# Altium footprint library IPC-SM-782 Section 11.3 SQFP_QFP-Rectangular.PcbLib: 50 footprints (part 1 of 4)
Each footprint in its own frame and in the unit in brackets; x right, y up, seen from the top. Pads: shape width x height; smd on the part's side, far side on the other; paste and mask are expansions set on the pad; w line width, h text height; cw(c..) or ccw(c..) is an arc to the next point about the centre after c.
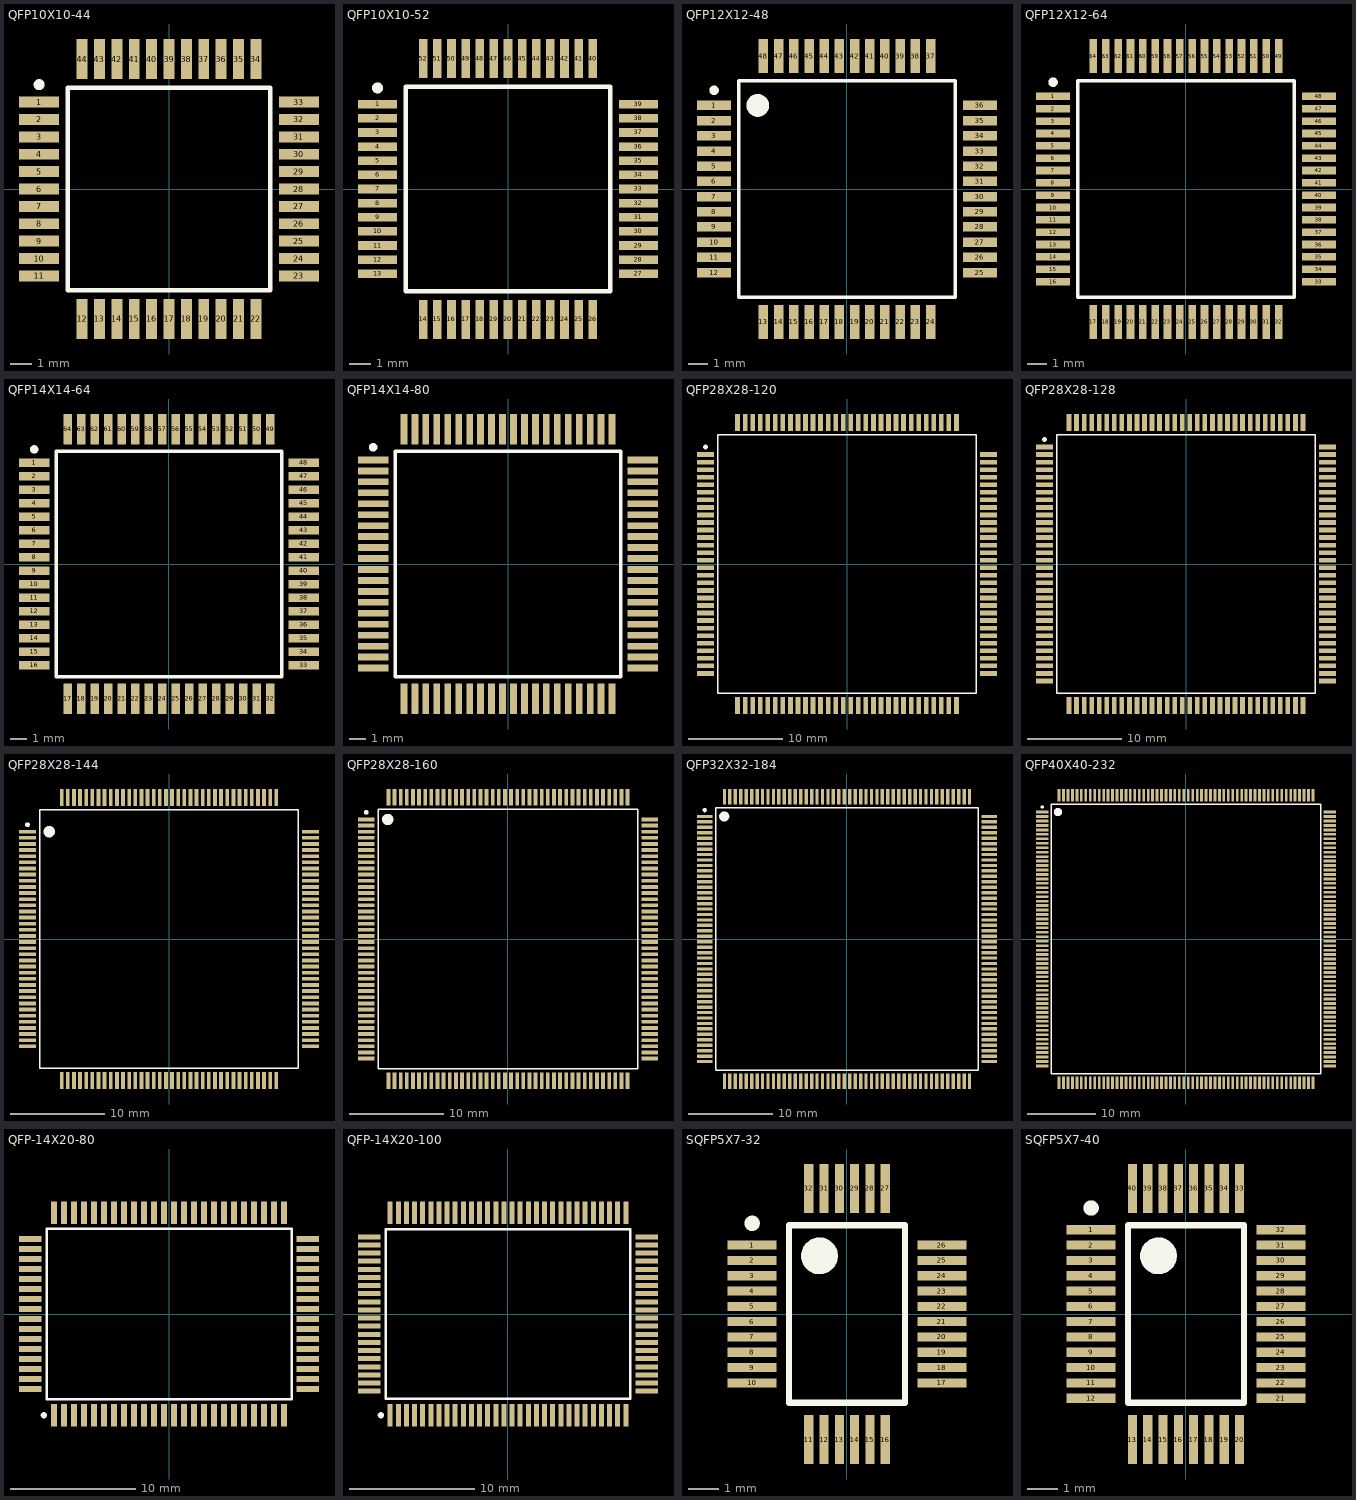
[diagram p0: the footprints below, top view; thin cyan lines are the x and y axes]

## QFP10X10-44 [mm] "QFP; 44 Leads; Body 10 x 10 mm; Pitch 0.8 mm"
height 2.45
pads (44):
  rect 1.85x0.5 smd: 1(-5.975,4) 2(-5.975,3.2) 3(-5.975,2.4) 4(-5.975,1.6) 5(-5.975,0.8) 6(-5.975,0) 7(-5.975,-0.8) 8(-5.975,-1.6) 9(-5.975,-2.4) 10(-5.975,-3.2) 11(-5.975,-4) 23(5.975,-4) 24(5.975,-3.2) 25(5.975,-2.4) 26(5.975,-1.6) 27(5.975,-0.8) 28(5.975,0) 29(5.975,0.8) 30(5.975,1.6) 31(5.975,2.4) 32(5.975,3.2) 33(5.975,4)
  rect 0.5x1.85 smd: 12(-4,-5.975) 13(-3.2,-5.975) 14(-2.4,-5.975) 15(-1.6,-5.975) 16(-0.8,-5.975) 17(0,-5.975) 18(0.8,-5.975) 19(1.6,-5.975) 20(2.4,-5.975) 21(3.2,-5.975) 22(4,-5.975) 34(4,5.975) 35(3.2,5.975) 36(2.4,5.975) 37(1.6,5.975) 38(0.8,5.975) 39(0,5.975) 40(-0.8,5.975) 41(-1.6,5.975) 42(-2.4,5.975) 43(-3.2,5.975) 44(-4,5.975)
Top Overlay:
  circle w0.25: c-5.975,4.8 r0.125
  lines w0.2: -4.65,-4.65 -4.65,4.65 4.65,4.65 4.65,-4.65 -4.65,-4.65

## QFP10X10-52 [mm] "QFP; 52 Leads; Body 10 x 10 mm; Pitch 0.65 mm"
height 2.45
pads (52):
  rect 1.8x0.4 smd: 1(-6,3.9) 2(-6,3.25) 3(-6,2.6) 4(-6,1.95) 5(-6,1.3) 6(-6,0.65) 7(-6,0) 8(-6,-0.65) 9(-6,-1.3) 10(-6,-1.95) 11(-6,-2.6) 12(-6,-3.25) 13(-6,-3.9) 27(6,-3.9) 28(6,-3.25) 29(6,-2.6) 30(6,-1.95) 31(6,-1.3) 32(6,-0.65) 33(6,0) 34(6,0.65) 35(6,1.3) 36(6,1.95) 37(6,2.6) 38(6,3.25) 39(6,3.9)
  rect 0.4x1.8 smd: 14(-3.9,-6) 15(-3.25,-6) 16(-2.6,-6) 17(-1.95,-6) 18(-1.3,-6) 19(-0.65,-6) 20(0,-6) 21(0.65,-6) 22(1.3,-6) 23(1.95,-6) 24(2.6,-6) 25(3.25,-6) 26(3.9,-6) 40(3.9,6) 41(3.25,6) 42(2.6,6) 43(1.95,6) 44(1.3,6) 45(0.65,6) 46(0,6) 47(-0.65,6) 48(-1.3,6) 49(-1.95,6) 50(-2.6,6) 51(-3.25,6) 52(-3.9,6)
Top Overlay:
  circle w0.25: c-6,4.65 r0.125
  lines w0.2: -4.7,-4.7 -4.7,4.7 4.7,4.7 4.7,-4.7 -4.7,-4.7

## QFP12X12-48 [mm] "QFP; 48 Leads; Body 12 x 12 mm; Pitch 0.8 mm"
height 2.45
pads (48):
  rect 1.8x0.5 smd: 1(-7,4.4) 2(-7,3.6) 3(-7,2.8) 4(-7,2) 5(-7,1.2) 6(-7,0.4) 7(-7,-0.4) 8(-7,-1.2) 9(-7,-2) 10(-7,-2.8) 11(-7,-3.6) 12(-7,-4.4) 25(7,-4.4) 26(7,-3.6) 27(7,-2.8) 28(7,-2) 29(7,-1.2) 30(7,-0.4) 31(7,0.4) 32(7,1.2) 33(7,2) 34(7,2.8) 35(7,3.6) 36(7,4.4)
  rect 0.5x1.8 smd: 13(-4.4,-7) 14(-3.6,-7) 15(-2.8,-7) 16(-2,-7) 17(-1.2,-7) 18(-0.4,-7) 19(0.4,-7) 20(1.2,-7) 21(2,-7) 22(2.8,-7) 23(3.6,-7) 24(4.4,-7) 37(4.4,7) 38(3.6,7) 39(2.8,7) 40(2,7) 41(1.2,7) 42(0.4,7) 43(-0.4,7) 44(-1.2,7) 45(-2,7) 46(-2.8,7) 47(-3.6,7) 48(-4.4,7)
Top Overlay:
  circle w0.6: c-4.7,4.4 r0.3
  circle w0.25: c-7,5.2 r0.125
  lines w0.2: -5.7,-5.7 -5.7,5.7 5.7,5.7 5.7,-5.7 -5.7,-5.7

## QFP12X12-64 [mm] "QFP; 64 Leads; Body 12 x 12 mm; Pitch 0.65 mm"
height 2.45
pads (64):
  rect 1.8x0.4 smd: 1(-7,4.875) 2(-7,4.225) 3(-7,3.575) 4(-7,2.925) 5(-7,2.275) 6(-7,1.625) 7(-7,0.975) 8(-7,0.325) 9(-7,-0.325) 10(-7,-0.975) 11(-7,-1.625) 12(-7,-2.275) 13(-7,-2.925) 14(-7,-3.575) 15(-7,-4.225) 16(-7,-4.875) 33(7,-4.875) 34(7,-4.225) 35(7,-3.575) 36(7,-2.925) 37(7,-2.275) 38(7,-1.625) 39(7,-0.975) 40(7,-0.325) 41(7,0.325) 42(7,0.975) 43(7,1.625) 44(7,2.275) 45(7,2.925) 46(7,3.575) 47(7,4.225) 48(7,4.875)
  rect 0.4x1.8 smd: 17(-4.875,-7) 18(-4.225,-7) 19(-3.575,-7) 20(-2.925,-7) 21(-2.275,-7) 22(-1.625,-7) 23(-0.975,-7) 24(-0.325,-7) 25(0.325,-7) 26(0.975,-7) 27(1.625,-7) 28(2.275,-7) 29(2.925,-7) 30(3.575,-7) 31(4.225,-7) 32(4.875,-7) 49(4.875,7) 50(4.225,7) 51(3.575,7) 52(2.925,7) 53(2.275,7) 54(1.625,7) 55(0.975,7) 56(0.325,7) 57(-0.325,7) 58(-0.975,7) 59(-1.625,7) 60(-2.275,7) 61(-2.925,7) 62(-3.575,7) 63(-4.225,7) 64(-4.875,7)
Top Overlay:
  circle w0.25: c-7,5.625 r0.125
  lines w0.2: -5.7,-5.7 5.7,-5.7 5.7,5.7 -5.7,5.7 -5.7,-5.7

## QFP14X14-64 [mm] "QFP; 64 Leads; Body 14 x 14 mm; Pitch 0.8 mm"
height 2.45
pads (64):
  rect 1.8x0.5 smd: 1(-8,6) 2(-8,5.2) 3(-8,4.4) 4(-8,3.6) 5(-8,2.8) 6(-8,2) 7(-8,1.2) 8(-8,0.4) 9(-8,-0.4) 10(-8,-1.2) 11(-8,-2) 12(-8,-2.8) 13(-8,-3.6) 14(-8,-4.4) 15(-8,-5.2) 16(-8,-6) 33(8,-6) 34(8,-5.2) 35(8,-4.4) 36(8,-3.6) 37(8,-2.8) 38(8,-2) 39(8,-1.2) 40(8,-0.4) 41(8,0.4) 42(8,1.2) 43(8,2) 44(8,2.8) 45(8,3.6) 46(8,4.4) 47(8,5.2) 48(8,6)
  rect 0.5x1.8 smd: 17(-6,-8) 18(-5.2,-8) 19(-4.4,-8) 20(-3.6,-8) 21(-2.8,-8) 22(-2,-8) 23(-1.2,-8) 24(-0.4,-8) 25(0.4,-8) 26(1.2,-8) 27(2,-8) 28(2.8,-8) 29(3.6,-8) 30(4.4,-8) 31(5.2,-8) 32(6,-8) 49(6,8) 50(5.2,8) 51(4.4,8) 52(3.6,8) 53(2.8,8) 54(2,8) 55(1.2,8) 56(0.4,8) 57(-0.4,8) 58(-1.2,8) 59(-2,8) 60(-2.8,8) 61(-3.6,8) 62(-4.4,8) 63(-5.2,8) 64(-6,8)
Top Overlay:
  circle w0.25: c-8,6.8 r0.125
  lines w0.2: -6.7,-6.7 -6.7,6.7 6.7,6.7 6.7,-6.7 -6.7,-6.7

## QFP14X14-80 [mm] "QFP; 80 Leads; Body 14 x 14 mm; Pitch 0.65 mm"
height 2.45
pads (80):
  rect 1.8x0.4 smd: 1(-8,6.175) 2(-8,5.525) 3(-8,4.875) 4(-8,4.225) 5(-8,3.575) 6(-8,2.925) 7(-8,2.275) 8(-8,1.625) 9(-8,0.975) 10(-8,0.325) 11(-8,-0.325) 12(-8,-0.975) 13(-8,-1.625) 14(-8,-2.275) 15(-8,-2.925) 16(-8,-3.575) 17(-8,-4.225) 18(-8,-4.875) 19(-8,-5.525) 20(-8,-6.175) 41(8,-6.175) 42(8,-5.525) 43(8,-4.875) 44(8,-4.225) 45(8,-3.575) 46(8,-2.925) 47(8,-2.275) 48(8,-1.625) 49(8,-0.975) 50(8,-0.325) 51(8,0.325) 52(8,0.975) 53(8,1.625) 54(8,2.275) 55(8,2.925) 56(8,3.575) 57(8,4.225) 58(8,4.875) 59(8,5.525) 60(8,6.175)
  rect 0.4x1.8 smd: 21(-6.175,-8) 22(-5.525,-8) 23(-4.875,-8) 24(-4.225,-8) 25(-3.575,-8) 26(-2.925,-8) 27(-2.275,-8) 28(-1.625,-8) 29(-0.975,-8) 30(-0.325,-8) 31(0.325,-8) 32(0.975,-8) 33(1.625,-8) 34(2.275,-8) 35(2.925,-8) 36(3.575,-8) 37(4.225,-8) 38(4.875,-8) 39(5.525,-8) 40(6.175,-8) 61(6.175,8) 62(5.525,8) 63(4.875,8) 64(4.225,8) 65(3.575,8) 66(2.925,8) 67(2.275,8) 68(1.625,8) 69(0.975,8) 70(0.325,8) 71(-0.325,8) 72(-0.975,8) 73(-1.625,8) 74(-2.275,8) 75(-2.925,8) 76(-3.575,8) 77(-4.225,8) 78(-4.875,8) 79(-5.525,8) 80(-6.175,8)
Top Overlay:
  circle w0.25: c-8,6.925 r0.125
  lines w0.2: -6.7,-6.7 6.7,-6.7 6.7,6.7 -6.7,6.7 -6.7,-6.7

## QFP28X28-120 [mm] "QFP; 120 Leads; Body 28 x 28 mm; Pitch 0.8 mm"
height 3.75
pads (120):
  rect 1.8x0.5 smd: 1(-15,11.6) 2(-15,10.8) 3(-15,10) 4(-15,9.2) 5(-15,8.4) 6(-15,7.6) 7(-15,6.8) 8(-15,6) 9(-15,5.2) 10(-15,4.4) 11(-15,3.6) 12(-15,2.8) 13(-15,2) 14(-15,1.2) 15(-15,0.4) 16(-15,-0.4) 17(-15,-1.2) 18(-15,-2) 19(-15,-2.8) 20(-15,-3.6) 21(-15,-4.4) 22(-15,-5.2) 23(-15,-6) 24(-15,-6.8) 25(-15,-7.6) 26(-15,-8.4) 27(-15,-9.2) 28(-15,-10) 29(-15,-10.8) 30(-15,-11.6) 61(15,-11.6) 62(15,-10.8) 63(15,-10) 64(15,-9.2) 65(15,-8.4) 66(15,-7.6) 67(15,-6.8) 68(15,-6) 69(15,-5.2) 70(15,-4.4) 71(15,-3.6) 72(15,-2.8) 73(15,-2) 74(15,-1.2) 75(15,-0.4) 76(15,0.4) 77(15,1.2) 78(15,2) 79(15,2.8) 80(15,3.6) 81(15,4.4) 82(15,5.2) 83(15,6) 84(15,6.8) 85(15,7.6) 86(15,8.4) 87(15,9.2) 88(15,10) 89(15,10.8) 90(15,11.6)
  rect 0.5x1.8 smd: 31(-11.6,-15) 32(-10.8,-15) 33(-10,-15) 34(-9.2,-15) 35(-8.4,-15) 36(-7.6,-15) 37(-6.8,-15) 38(-6,-15) 39(-5.2,-15) 40(-4.4,-15) 41(-3.6,-15) 42(-2.8,-15) 43(-2,-15) 44(-1.2,-15) 45(-0.4,-15) 46(0.4,-15) 47(1.2,-15) 48(2,-15) 49(2.8,-15) 50(3.6,-15) 51(4.4,-15) 52(5.2,-15) 53(6,-15) 54(6.8,-15) 55(7.6,-15) 56(8.4,-15) 57(9.2,-15) 58(10,-15) 59(10.8,-15) 60(11.6,-15) 91(11.6,15) 92(10.8,15) 93(10,15) 94(9.2,15) 95(8.4,15) 96(7.6,15) 97(6.8,15) 98(6,15) 99(5.2,15) 100(4.4,15) 101(3.6,15) 102(2.8,15) 103(2,15) 104(1.2,15) 105(0.4,15) 106(-0.4,15) 107(-1.2,15) 108(-2,15) 109(-2.8,15) 110(-3.6,15) 111(-4.4,15) 112(-5.2,15) 113(-6,15) 114(-6.8,15) 115(-7.6,15) 116(-8.4,15) 117(-9.2,15) 118(-10,15) 119(-10.8,15) 120(-11.6,15)
Top Overlay:
  circle w0.25: c-15,12.4 r0.125
  lines w0.2: -13.7,-13.7 13.7,-13.7 13.7,13.7 -13.7,13.7 -13.7,-13.7

## QFP28X28-128 [mm] "QFP; 128 Leads; Body 28 x 28 mm; Pitch 0.8 mm"
height 3.75
pads (128):
  rect 1.8x0.5 smd: 1(-15,12.4) 2(-15,11.6) 3(-15,10.8) 4(-15,10) 5(-15,9.2) 6(-15,8.4) 7(-15,7.6) 8(-15,6.8) 9(-15,6) 10(-15,5.2) 11(-15,4.4) 12(-15,3.6) 13(-15,2.8) 14(-15,2) 15(-15,1.2) 16(-15,0.4) 17(-15,-0.4) 18(-15,-1.2) 19(-15,-2) 20(-15,-2.8) 21(-15,-3.6) 22(-15,-4.4) 23(-15,-5.2) 24(-15,-6) 25(-15,-6.8) 26(-15,-7.6) 27(-15,-8.4) 28(-15,-9.2) 29(-15,-10) 30(-15,-10.8) 31(-15,-11.6) 32(-15,-12.4) 65(15,-12.4) 66(15,-11.6) 67(15,-10.8) 68(15,-10) 69(15,-9.2) 70(15,-8.4) 71(15,-7.6) 72(15,-6.8) 73(15,-6) 74(15,-5.2) 75(15,-4.4) 76(15,-3.6) 77(15,-2.8) 78(15,-2) 79(15,-1.2) 80(15,-0.4) 81(15,0.4) 82(15,1.2) 83(15,2) 84(15,2.8) 85(15,3.6) 86(15,4.4) 87(15,5.2) 88(15,6) 89(15,6.8) 90(15,7.6) 91(15,8.4) 92(15,9.2) 93(15,10) 94(15,10.8) 95(15,11.6) 96(15,12.4)
  rect 0.5x1.8 smd: 33(-12.4,-15) 34(-11.6,-15) 35(-10.8,-15) 36(-10,-15) 37(-9.2,-15) 38(-8.4,-15) 39(-7.6,-15) 40(-6.8,-15) 41(-6,-15) 42(-5.2,-15) 43(-4.4,-15) 44(-3.6,-15) 45(-2.8,-15) 46(-2,-15) 47(-1.2,-15) 48(-0.4,-15) 49(0.4,-15) 50(1.2,-15) 51(2,-15) 52(2.8,-15) 53(3.6,-15) 54(4.4,-15) 55(5.2,-15) 56(6,-15) 57(6.8,-15) 58(7.6,-15) 59(8.4,-15) 60(9.2,-15) 61(10,-15) 62(10.8,-15) 63(11.6,-15) 64(12.4,-15) 97(12.4,15) 98(11.6,15) 99(10.8,15) 100(10,15) 101(9.2,15) 102(8.4,15) 103(7.6,15) 104(6.8,15) 105(6,15) 106(5.2,15) 107(4.4,15) 108(3.6,15) 109(2.8,15) 110(2,15) 111(1.2,15) 112(0.4,15) 113(-0.4,15) 114(-1.2,15) 115(-2,15) 116(-2.8,15) 117(-3.6,15) 118(-4.4,15) 119(-5.2,15) 120(-6,15) 121(-6.8,15) 122(-7.6,15) 123(-8.4,15) 124(-9.2,15) 125(-10,15) 126(-10.8,15) 127(-11.6,15) 128(-12.4,15)
Top Overlay:
  circle w0.25: c-15,13.2 r0.125
  lines w0.2: -13.7,-13.7 13.7,-13.7 13.7,13.7 -13.7,13.7 -13.7,-13.7

## QFP28X28-144 [mm] "QFP; 144 Leads; Body 28 x 28 mm; Pitch 0.65 mm"
height 3.75
pads (144):
  rect 1.8x0.4 smd: 1(-15,11.375) 2(-15,10.725) 3(-15,10.075) 4(-15,9.425) 5(-15,8.775) 6(-15,8.125) 7(-15,7.475) 8(-15,6.825) 9(-15,6.175) 10(-15,5.525) 11(-15,4.875) 12(-15,4.225) 13(-15,3.575) 14(-15,2.925) 15(-15,2.275) 16(-15,1.625) 17(-15,0.975) 18(-15,0.325) 19(-15,-0.325) 20(-15,-0.975) 21(-15,-1.625) 22(-15,-2.275) 23(-15,-2.925) 24(-15,-3.575) 25(-15,-4.225) 26(-15,-4.875) 27(-15,-5.525) 28(-15,-6.175) 29(-15,-6.825) 30(-15,-7.475) 31(-15,-8.125) 32(-15,-8.775) 33(-15,-9.425) 34(-15,-10.075) 35(-15,-10.725) 36(-15,-11.375) 73(15,-11.375) 74(15,-10.725) 75(15,-10.075) 76(15,-9.425) 77(15,-8.775) 78(15,-8.125) 79(15,-7.475) 80(15,-6.825) 81(15,-6.175) 82(15,-5.525) 83(15,-4.875) 84(15,-4.225) 85(15,-3.575) 86(15,-2.925) 87(15,-2.275) 88(15,-1.625) 89(15,-0.975) 90(15,-0.325) 91(15,0.325) 92(15,0.975) 93(15,1.625) 94(15,2.275) 95(15,2.925) 96(15,3.575) 97(15,4.225) 98(15,4.875) 99(15,5.525) 100(15,6.175) 101(15,6.825) 102(15,7.475) 103(15,8.125) 104(15,8.775) 105(15,9.425) 106(15,10.075) 107(15,10.725) 108(15,11.375)
  rect 0.4x1.8 smd: 37(-11.375,-15) 38(-10.725,-15) 39(-10.075,-15) 40(-9.425,-15) 41(-8.775,-15) 42(-8.125,-15) 43(-7.475,-15) 44(-6.825,-15) 45(-6.175,-15) 46(-5.525,-15) 47(-4.875,-15) 48(-4.225,-15) 49(-3.575,-15) 50(-2.925,-15) 51(-2.275,-15) 52(-1.625,-15) 53(-0.975,-15) 54(-0.325,-15) 55(0.325,-15) 56(0.975,-15) 57(1.625,-15) 58(2.275,-15) 59(2.925,-15) 60(3.575,-15) 61(4.225,-15) 62(4.875,-15) 63(5.525,-15) 64(6.175,-15) 65(6.825,-15) 66(7.475,-15) 67(8.125,-15) 68(8.775,-15) 69(9.425,-15) 70(10.075,-15) 71(10.725,-15) 72(11.375,-15) 109(11.375,15) 110(10.725,15) 111(10.075,15) 112(9.425,15) 113(8.775,15) 114(8.125,15) 115(7.475,15) 116(6.825,15) 117(6.175,15) 118(5.525,15) 119(4.875,15) 120(4.225,15) 121(3.575,15) 122(2.925,15) 123(2.275,15) 124(1.625,15) 125(0.975,15) 126(0.325,15) 127(-0.325,15) 128(-0.975,15) 129(-1.625,15) 130(-2.275,15) 131(-2.925,15) 132(-3.575,15) 133(-4.225,15) 134(-4.875,15) 135(-5.525,15) 136(-6.175,15) 137(-6.825,15) 138(-7.475,15) 139(-8.125,15) 140(-8.775,15) 141(-9.425,15) 142(-10.075,15) 143(-10.725,15) 144(-11.375,15)
Top Overlay:
  circle w0.6: c-12.7,11.375 r0.3
  circle w0.25: c-15,12.125 r0.125
  lines w0.2: -13.7,-13.7 13.7,-13.7 13.7,13.7 -13.7,13.7 -13.7,-13.7

## QFP28X28-160 [mm] "QFP; 160 Leads; Body 28 x 28 mm; Pitch 0.65 mm"
height 3.75
pads (160):
  rect 1.75x0.4 smd: 1(-15.025,12.675) 2(-15.025,12.025) 3(-15.025,11.375) 4(-15.025,10.725) 5(-15.025,10.075) 6(-15.025,9.425) 7(-15.025,8.775) 8(-15.025,8.125) 9(-15.025,7.475) 10(-15.025,6.825) 11(-15.025,6.175) 12(-15.025,5.525) 13(-15.025,4.875) 14(-15.025,4.225) 15(-15.025,3.575) 16(-15.025,2.925) 17(-15.025,2.275) 18(-15.025,1.625) 19(-15.025,0.975) 20(-15.025,0.325) 21(-15.025,-0.325) 22(-15.025,-0.975) 23(-15.025,-1.625) 24(-15.025,-2.275) 25(-15.025,-2.925) 26(-15.025,-3.575) 27(-15.025,-4.225) 28(-15.025,-4.875) 29(-15.025,-5.525) 30(-15.025,-6.175) 31(-15.025,-6.825) 32(-15.025,-7.475) 33(-15.025,-8.125) 34(-15.025,-8.775) 35(-15.025,-9.425) 36(-15.025,-10.075) 37(-15.025,-10.725) 38(-15.025,-11.375) 39(-15.025,-12.025) 40(-15.025,-12.675) 81(15.025,-12.675) 82(15.025,-12.025) 83(15.025,-11.375) 84(15.025,-10.725) 85(15.025,-10.075) 86(15.025,-9.425) 87(15.025,-8.775) 88(15.025,-8.125) 89(15.025,-7.475) 90(15.025,-6.825) 91(15.025,-6.175) 92(15.025,-5.525) 93(15.025,-4.875) 94(15.025,-4.225) 95(15.025,-3.575) 96(15.025,-2.925) 97(15.025,-2.275) 98(15.025,-1.625) 99(15.025,-0.975) 100(15.025,-0.325) 101(15.025,0.325) 102(15.025,0.975) 103(15.025,1.625) 104(15.025,2.275) 105(15.025,2.925) 106(15.025,3.575) 107(15.025,4.225) 108(15.025,4.875) 109(15.025,5.525) 110(15.025,6.175) 111(15.025,6.825) 112(15.025,7.475) 113(15.025,8.125) 114(15.025,8.775) 115(15.025,9.425) 116(15.025,10.075) 117(15.025,10.725) 118(15.025,11.375) 119(15.025,12.025) 120(15.025,12.675)
  rect 0.4x1.75 smd: 41(-12.675,-15.025) 42(-12.025,-15.025) 43(-11.375,-15.025) 44(-10.725,-15.025) 45(-10.075,-15.025) 46(-9.425,-15.025) 47(-8.775,-15.025) 48(-8.125,-15.025) 49(-7.475,-15.025) 50(-6.825,-15.025) 51(-6.175,-15.025) 52(-5.525,-15.025) 53(-4.875,-15.025) 54(-4.225,-15.025) 55(-3.575,-15.025) 56(-2.925,-15.025) 57(-2.275,-15.025) 58(-1.625,-15.025) 59(-0.975,-15.025) 60(-0.325,-15.025) 61(0.325,-15.025) 62(0.975,-15.025) 63(1.625,-15.025) 64(2.275,-15.025) 65(2.925,-15.025) 66(3.575,-15.025) 67(4.225,-15.025) 68(4.875,-15.025) 69(5.525,-15.025) 70(6.175,-15.025) 71(6.825,-15.025) 72(7.475,-15.025) 73(8.125,-15.025) 74(8.775,-15.025) 75(9.425,-15.025) 76(10.075,-15.025) 77(10.725,-15.025) 78(11.375,-15.025) 79(12.025,-15.025) 80(12.675,-15.025) 121(12.675,15.025) 122(12.025,15.025) 123(11.375,15.025) 124(10.725,15.025) 125(10.075,15.025) 126(9.425,15.025) 127(8.775,15.025) 128(8.125,15.025) 129(7.475,15.025) 130(6.825,15.025) 131(6.175,15.025) 132(5.525,15.025) 133(4.875,15.025) 134(4.225,15.025) 135(3.575,15.025) 136(2.925,15.025) 137(2.275,15.025) 138(1.625,15.025) 139(0.975,15.025) 140(0.325,15.025) 141(-0.325,15.025) 142(-0.975,15.025) 143(-1.625,15.025) 144(-2.275,15.025) 145(-2.925,15.025) 146(-3.575,15.025) 147(-4.225,15.025) 148(-4.875,15.025) 149(-5.525,15.025) 150(-6.175,15.025) 151(-6.825,15.025) 152(-7.475,15.025) 153(-8.125,15.025) 154(-8.775,15.025) 155(-9.425,15.025) 156(-10.075,15.025) 157(-10.725,15.025) 158(-11.375,15.025) 159(-12.025,15.025) 160(-12.675,15.025)
Top Overlay:
  circle w0.6: c-12.75,12.675 r0.3
  circle w0.25: c-15.025,13.425 r0.125
  lines w0.2: -13.75,-13.75 13.75,-13.75 13.75,13.75 -13.75,13.75 -13.75,-13.75

## QFP32X32-184 [mm] "QFP; 184 Leads; Body 32 x 32 mm; Pitch 0.65 mm"
height 4.2
pads (184):
  rect 1.85x0.4 smd: 1(-16.975,14.625) 2(-16.975,13.975) 3(-16.975,13.325) 4(-16.975,12.675) 5(-16.975,12.025) 6(-16.975,11.375) 7(-16.975,10.725) 8(-16.975,10.075) 9(-16.975,9.425) 10(-16.975,8.775) 11(-16.975,8.125) 12(-16.975,7.475) 13(-16.975,6.825) 14(-16.975,6.175) 15(-16.975,5.525) 16(-16.975,4.875) 17(-16.975,4.225) 18(-16.975,3.575) 19(-16.975,2.925) 20(-16.975,2.275) 21(-16.975,1.625) 22(-16.975,0.975) 23(-16.975,0.325) 24(-16.975,-0.325) 25(-16.975,-0.975) 26(-16.975,-1.625) 27(-16.975,-2.275) 28(-16.975,-2.925) 29(-16.975,-3.575) 30(-16.975,-4.225) 31(-16.975,-4.875) 32(-16.975,-5.525) 33(-16.975,-6.175) 34(-16.975,-6.825) 35(-16.975,-7.475) 36(-16.975,-8.125) 37(-16.975,-8.775) 38(-16.975,-9.425) 39(-16.975,-10.075) 40(-16.975,-10.725) 41(-16.975,-11.375) 42(-16.975,-12.025) 43(-16.975,-12.675) 44(-16.975,-13.325) 45(-16.975,-13.975) 46(-16.975,-14.625) 93(16.975,-14.625) 94(16.975,-13.975) 95(16.975,-13.325) 96(16.975,-12.675) 97(16.975,-12.025) 98(16.975,-11.375) 99(16.975,-10.725) 100(16.975,-10.075) 101(16.975,-9.425) 102(16.975,-8.775) 103(16.975,-8.125) 104(16.975,-7.475) 105(16.975,-6.825) 106(16.975,-6.175) 107(16.975,-5.525) 108(16.975,-4.875) 109(16.975,-4.225) 110(16.975,-3.575) 111(16.975,-2.925) 112(16.975,-2.275) 113(16.975,-1.625) 114(16.975,-0.975) 115(16.975,-0.325) 116(16.975,0.325) 117(16.975,0.975) 118(16.975,1.625) 119(16.975,2.275) 120(16.975,2.925) 121(16.975,3.575) 122(16.975,4.225) 123(16.975,4.875) 124(16.975,5.525) 125(16.975,6.175) 126(16.975,6.825) 127(16.975,7.475) 128(16.975,8.125) 129(16.975,8.775) 130(16.975,9.425) 131(16.975,10.075) 132(16.975,10.725) 133(16.975,11.375) 134(16.975,12.025) 135(16.975,12.675) 136(16.975,13.325) 137(16.975,13.975) 138(16.975,14.625)
  rect 0.4x1.85 smd: 47(-14.625,-16.975) 48(-13.975,-16.975) 49(-13.325,-16.975) 50(-12.675,-16.975) 51(-12.025,-16.975) 52(-11.375,-16.975) 53(-10.725,-16.975) 54(-10.075,-16.975) 55(-9.425,-16.975) 56(-8.775,-16.975) 57(-8.125,-16.975) 58(-7.475,-16.975) 59(-6.825,-16.975) 60(-6.175,-16.975) 61(-5.525,-16.975) 62(-4.875,-16.975) 63(-4.225,-16.975) 64(-3.575,-16.975) 65(-2.925,-16.975) 66(-2.275,-16.975) 67(-1.625,-16.975) 68(-0.975,-16.975) 69(-0.325,-16.975) 70(0.325,-16.975) 71(0.975,-16.975) 72(1.625,-16.975) 73(2.275,-16.975) 74(2.925,-16.975) 75(3.575,-16.975) 76(4.225,-16.975) 77(4.875,-16.975) 78(5.525,-16.975) 79(6.175,-16.975) 80(6.825,-16.975) 81(7.475,-16.975) 82(8.125,-16.975) 83(8.775,-16.975) 84(9.425,-16.975) 85(10.075,-16.975) 86(10.725,-16.975) 87(11.375,-16.975) 88(12.025,-16.975) 89(12.675,-16.975) 90(13.325,-16.975) 91(13.975,-16.975) 92(14.625,-16.975) 139(14.625,16.975) 140(13.975,16.975) 141(13.325,16.975) 142(12.675,16.975) 143(12.025,16.975) 144(11.375,16.975) 145(10.725,16.975) 146(10.075,16.975) 147(9.425,16.975) 148(8.775,16.975) 149(8.125,16.975) 150(7.475,16.975) 151(6.825,16.975) 152(6.175,16.975) 153(5.525,16.975) 154(4.875,16.975) 155(4.225,16.975) 156(3.575,16.975) 157(2.925,16.975) 158(2.275,16.975) 159(1.625,16.975) 160(0.975,16.975) 161(0.325,16.975) 162(-0.325,16.975) 163(-0.975,16.975) 164(-1.625,16.975) 165(-2.275,16.975) 166(-2.925,16.975) 167(-3.575,16.975) 168(-4.225,16.975) 169(-4.875,16.975) 170(-5.525,16.975) 171(-6.175,16.975) 172(-6.825,16.975) 173(-7.475,16.975) 174(-8.125,16.975) 175(-8.775,16.975) 176(-9.425,16.975) 177(-10.075,16.975) 178(-10.725,16.975) 179(-11.375,16.975) 180(-12.025,16.975) 181(-12.675,16.975) 182(-13.325,16.975) 183(-13.975,16.975) 184(-14.625,16.975)
Top Overlay:
  circle w0.25: c-16.975,15.375 r0.125
  circle w0.6: c-14.65,14.625 r0.3
  lines w0.2: -15.65,-15.65 15.65,-15.65 15.65,15.65 -15.65,15.65 -15.65,-15.65

## QFP40X40-232 [mm] "QFP; 232 Leads; Body 40 x 40 mm; Pitch 0.65 mm"
height 4.2
pads (232):
  rect 1.8x0.4 smd: 1(-21,18.525) 2(-21,17.875) 3(-21,17.225) 4(-21,16.575) 5(-21,15.925) 6(-21,15.275) 7(-21,14.625) 8(-21,13.975) 9(-21,13.325) 10(-21,12.675) 11(-21,12.025) 12(-21,11.375) 13(-21,10.725) 14(-21,10.075) 15(-21,9.425) 16(-21,8.775) 17(-21,8.125) 18(-21,7.475) 19(-21,6.825) 20(-21,6.175) 21(-21,5.525) 22(-21,4.875) 23(-21,4.225) 24(-21,3.575) 25(-21,2.925) 26(-21,2.275) 27(-21,1.625) 28(-21,0.975) 29(-21,0.325) 30(-21,-0.325) 31(-21,-0.975) 32(-21,-1.625) 33(-21,-2.275) 34(-21,-2.925) 35(-21,-3.575) 36(-21,-4.225) 37(-21,-4.875) 38(-21,-5.525) 39(-21,-6.175) 40(-21,-6.825) 41(-21,-7.475) 42(-21,-8.125) 43(-21,-8.775) 44(-21,-9.425) 45(-21,-10.075) 46(-21,-10.725) 47(-21,-11.375) 48(-21,-12.025) 49(-21,-12.675) 50(-21,-13.325) 51(-21,-13.975) 52(-21,-14.625) 53(-21,-15.275) 54(-21,-15.925) 55(-21,-16.575) 56(-21,-17.225) 57(-21,-17.875) 58(-21,-18.525) 117(21,-18.525) 118(21,-17.875) 119(21,-17.225) 120(21,-16.575) 121(21,-15.925) 122(21,-15.275) 123(21,-14.625) 124(21,-13.975) 125(21,-13.325) 126(21,-12.675) 127(21,-12.025) 128(21,-11.375) 129(21,-10.725) 130(21,-10.075) 131(21,-9.425) 132(21,-8.775) 133(21,-8.125) 134(21,-7.475) 135(21,-6.825) 136(21,-6.175) 137(21,-5.525) 138(21,-4.875) 139(21,-4.225) 140(21,-3.575) 141(21,-2.925) 142(21,-2.275) 143(21,-1.625) 144(21,-0.975) 145(21,-0.325) 146(21,0.325) 147(21,0.975) 148(21,1.625) 149(21,2.275) 150(21,2.925) 151(21,3.575) 152(21,4.225) 153(21,4.875) 154(21,5.525) 155(21,6.175) 156(21,6.825) 157(21,7.475) 158(21,8.125) 159(21,8.775) 160(21,9.425) 161(21,10.075) 162(21,10.725) 163(21,11.375) 164(21,12.025) 165(21,12.675) 166(21,13.325) 167(21,13.975) 168(21,14.625) 169(21,15.275) 170(21,15.925) 171(21,16.575) 172(21,17.225) 173(21,17.875) 174(21,18.525)
  rect 0.4x1.8 smd: 59(-18.525,-21) 60(-17.875,-21) 61(-17.225,-21) 62(-16.575,-21) 63(-15.925,-21) 64(-15.275,-21) 65(-14.625,-21) 66(-13.975,-21) 67(-13.325,-21) 68(-12.675,-21) 69(-12.025,-21) 70(-11.375,-21) 71(-10.725,-21) 72(-10.075,-21) 73(-9.425,-21) 74(-8.775,-21) 75(-8.125,-21) 76(-7.475,-21) 77(-6.825,-21) 78(-6.175,-21) 79(-5.525,-21) 80(-4.875,-21) 81(-4.225,-21) 82(-3.575,-21) 83(-2.925,-21) 84(-2.275,-21) 85(-1.625,-21) 86(-0.975,-21) 87(-0.325,-21) 88(0.325,-21) 89(0.975,-21) 90(1.625,-21) 91(2.275,-21) 92(2.925,-21) 93(3.575,-21) 94(4.225,-21) 95(4.875,-21) 96(5.525,-21) 97(6.175,-21) 98(6.825,-21) 99(7.475,-21) 100(8.125,-21) 101(8.775,-21) 102(9.425,-21) 103(10.075,-21) 104(10.725,-21) 105(11.375,-21) 106(12.025,-21) 107(12.675,-21) 108(13.325,-21) 109(13.975,-21) 110(14.625,-21) 111(15.275,-21) 112(15.925,-21) 113(16.575,-21) 114(17.225,-21) 115(17.875,-21) 116(18.525,-21) 175(18.525,21) 176(17.875,21) 177(17.225,21) 178(16.575,21) 179(15.925,21) 180(15.275,21) 181(14.625,21) 182(13.975,21) 183(13.325,21) 184(12.675,21) 185(12.025,21) 186(11.375,21) 187(10.725,21) 188(10.075,21) 189(9.425,21) 190(8.775,21) 191(8.125,21) 192(7.475,21) 193(6.825,21) 194(6.175,21) 195(5.525,21) 196(4.875,21) 197(4.225,21) 198(3.575,21) 199(2.925,21) 200(2.275,21) 201(1.625,21) 202(0.975,21) 203(0.325,21) 204(-0.325,21) 205(-0.975,21) 206(-1.625,21) 207(-2.275,21) 208(-2.925,21) 209(-3.575,21) 210(-4.225,21) 211(-4.875,21) 212(-5.525,21) 213(-6.175,21) 214(-6.825,21) 215(-7.475,21) 216(-8.125,21) 217(-8.775,21) 218(-9.425,21) 219(-10.075,21) 220(-10.725,21) 221(-11.375,21) 222(-12.025,21) 223(-12.675,21) 224(-13.325,21) 225(-13.975,21) 226(-14.625,21) 227(-15.275,21) 228(-15.925,21) 229(-16.575,21) 230(-17.225,21) 231(-17.875,21) 232(-18.525,21)
Top Overlay:
  circle w0.6: c-18.7,18.525 r0.3
  circle w0.25: c-21,19.275 r0.125
  lines w0.2: -19.7,-19.7 -19.7,19.7 19.7,19.7 19.7,-19.7 -19.7,-19.7

## QFP-14X20-80 [mm] "QFP; 80 Leads; Body 14 x 20 mm; Pitch 0.8 mm"
height 2.45
pads (80):
  rect 0.5x1.8 smd: 1(-9.2,-8.1) 2(-8.4,-8.1) 3(-7.6,-8.1) 4(-6.8,-8.1) 5(-6,-8.1) 6(-5.2,-8.1) 7(-4.4,-8.1) 8(-3.6,-8.1) 9(-2.8,-8.1) 10(-2,-8.1) 11(-1.2,-8.1) 12(-0.4,-8.1) 13(0.4,-8.1) 14(1.2,-8.1) 15(2,-8.1) 16(2.8,-8.1) 17(3.6,-8.1) 18(4.4,-8.1) 19(5.2,-8.1) 20(6,-8.1) 21(6.8,-8.1) 22(7.6,-8.1) 23(8.4,-8.1) 24(9.2,-8.1) 41(9.2,8.1) 42(8.4,8.1) 43(7.6,8.1) 44(6.8,8.1) 45(6,8.1) 46(5.2,8.1) 47(4.4,8.1) 48(3.6,8.1) 49(2.8,8.1) 50(2,8.1) 51(1.2,8.1) 52(0.4,8.1) 53(-0.4,8.1) 54(-1.2,8.1) 55(-2,8.1) 56(-2.8,8.1) 57(-3.6,8.1) 58(-4.4,8.1) 59(-5.2,8.1) 60(-6,8.1) 61(-6.8,8.1) 62(-7.6,8.1) 63(-8.4,8.1) 64(-9.2,8.1)
  rect 1.8x0.5 smd: 25(11.1,-6) 26(11.1,-5.2) 27(11.1,-4.4) 28(11.1,-3.6) 29(11.1,-2.8) 30(11.1,-2) 31(11.1,-1.2) 32(11.1,-0.4) 33(11.1,0.4) 34(11.1,1.2) 35(11.1,2) 36(11.1,2.8) 37(11.1,3.6) 38(11.1,4.4) 39(11.1,5.2) 40(11.1,6) 65(-11.1,6) 66(-11.1,5.2) 67(-11.1,4.4) 68(-11.1,3.6) 69(-11.1,2.8) 70(-11.1,2) 71(-11.1,1.2) 72(-11.1,0.4) 73(-11.1,-0.4) 74(-11.1,-1.2) 75(-11.1,-2) 76(-11.1,-2.8) 77(-11.1,-3.6) 78(-11.1,-4.4) 79(-11.1,-5.2) 80(-11.1,-6)
Top Overlay:
  circle w0.25: c-10.012,-8.1 r0.125
  lines w0.2: -9.8,-6.8 -9.8,6.8 9.8,6.8 9.8,-6.8 -9.8,-6.8

## QFP-14X20-100 [mm] "QFP; 100 Leads; Body 14 x 20 mm; Pitch 0.65 mm"
height 2.45
pads (100):
  rect 0.4x1.8 smd: 1(-9.425,-8.105) 2(-8.775,-8.105) 3(-8.125,-8.105) 4(-7.475,-8.105) 5(-6.825,-8.105) 6(-6.175,-8.105) 7(-5.525,-8.105) 8(-4.875,-8.105) 9(-4.225,-8.105) 10(-3.575,-8.105) 11(-2.925,-8.105) 12(-2.275,-8.105) 13(-1.625,-8.105) 14(-0.975,-8.105) 15(-0.325,-8.105) 16(0.325,-8.105) 17(0.975,-8.105) 18(1.625,-8.105) 19(2.275,-8.105) 20(2.925,-8.105) 21(3.575,-8.105) 22(4.225,-8.105) 23(4.875,-8.105) 24(5.525,-8.105) 25(6.175,-8.105) 26(6.825,-8.105) 27(7.475,-8.105) 28(8.125,-8.105) 29(8.775,-8.105) 30(9.425,-8.105) 51(9.425,8.105) 52(8.775,8.105) 53(8.125,8.105) 54(7.475,8.105) 55(6.825,8.105) 56(6.175,8.105) 57(5.525,8.105) 58(4.875,8.105) 59(4.225,8.105) 60(3.575,8.105) 61(2.925,8.105) 62(2.275,8.105) 63(1.625,8.105) 64(0.975,8.105) 65(0.325,8.105) 66(-0.325,8.105) 67(-0.975,8.105) 68(-1.625,8.105) 69(-2.275,8.105) 70(-2.925,8.105) 71(-3.575,8.105) 72(-4.225,8.105) 73(-4.875,8.105) 74(-5.525,8.105) 75(-6.175,8.105) 76(-6.825,8.105) 77(-7.475,8.105) 78(-8.125,8.105) 79(-8.775,8.105) 80(-9.425,8.105)
  rect 1.8x0.4 smd: 31(11.105,-6.175) 32(11.105,-5.525) 33(11.105,-4.875) 34(11.105,-4.225) 35(11.105,-3.575) 36(11.105,-2.925) 37(11.105,-2.275) 38(11.105,-1.625) 39(11.105,-0.975) 40(11.105,-0.325) 41(11.105,0.325) 42(11.105,0.975) 43(11.105,1.625) 44(11.105,2.275) 45(11.105,2.925) 46(11.105,3.575) 47(11.105,4.225) 48(11.105,4.875) 49(11.105,5.525) 50(11.105,6.175) 81(-11.105,6.175) 82(-11.105,5.525) 83(-11.105,4.875) 84(-11.105,4.225) 85(-11.105,3.575) 86(-11.105,2.925) 87(-11.105,2.275) 88(-11.105,1.625) 89(-11.105,0.975) 90(-11.105,0.325) 91(-11.105,-0.325) 92(-11.105,-0.975) 93(-11.105,-1.625) 94(-11.105,-2.275) 95(-11.105,-2.925) 96(-11.105,-3.575) 97(-11.105,-4.225) 98(-11.105,-4.875) 99(-11.105,-5.525) 100(-11.105,-6.175)
Top Overlay:
  circle w0.25: c-10.175,-8.105 r0.125
  lines w0.2: -9.8,-6.8 -9.8,6.8 9.8,6.8 9.8,-6.8 -9.8,-6.8

## SQFP5X7-32 [mm] "QFP; 32 Leads; Body 5 x 7 mm; Pitch 0.5 mm"
height 1.7
pads (32):
  rect 1.6x0.3 smd: 1(-3.1,2.25) 2(-3.1,1.75) 3(-3.1,1.25) 4(-3.1,0.75) 5(-3.1,0.25) 6(-3.1,-0.25) 7(-3.1,-0.75) 8(-3.1,-1.25) 9(-3.1,-1.75) 10(-3.1,-2.25) 17(3.1,-2.25) 18(3.1,-1.75) 19(3.1,-1.25) 20(3.1,-0.75) 21(3.1,-0.25) 22(3.1,0.25) 23(3.1,0.75) 24(3.1,1.25) 25(3.1,1.75) 26(3.1,2.25)
  rect 0.3x1.6 smd: 11(-1.25,-4.1) 12(-0.75,-4.1) 13(-0.25,-4.1) 14(0.25,-4.1) 15(0.75,-4.1) 16(1.25,-4.1) 27(1.25,4.1) 28(0.75,4.1) 29(0.25,4.1) 30(-0.25,4.1) 31(-0.75,4.1) 32(-1.25,4.1)
Top Overlay:
  circle w0.6: c-0.9,1.9 r0.3
  circle w0.25: c-3.1,2.963 r0.125
  lines w0.2: -1.9,-2.9 -1.9,2.9 1.9,2.9 1.9,-2.9 -1.9,-2.9

## SQFP5X7-40 [mm] "QFP; 40 Leads; Body 5 x 7 mm; Pitch 0.5 mm"
height 1.7
pads (40):
  rect 1.6x0.3 smd: 1(-3.1,2.75) 2(-3.1,2.25) 3(-3.1,1.75) 4(-3.1,1.25) 5(-3.1,0.75) 6(-3.1,0.25) 7(-3.1,-0.25) 8(-3.1,-0.75) 9(-3.1,-1.25) 10(-3.1,-1.75) 11(-3.1,-2.25) 12(-3.1,-2.75) 21(3.1,-2.75) 22(3.1,-2.25) 23(3.1,-1.75) 24(3.1,-1.25) 25(3.1,-0.75) 26(3.1,-0.25) 27(3.1,0.25) 28(3.1,0.75) 29(3.1,1.25) 30(3.1,1.75) 31(3.1,2.25) 32(3.1,2.75)
  rect 0.3x1.6 smd: 13(-1.75,-4.1) 14(-1.25,-4.1) 15(-0.75,-4.1) 16(-0.25,-4.1) 17(0.25,-4.1) 18(0.75,-4.1) 19(1.25,-4.1) 20(1.75,-4.1) 33(1.75,4.1) 34(1.25,4.1) 35(0.75,4.1) 36(0.25,4.1) 37(-0.25,4.1) 38(-0.75,4.1) 39(-1.25,4.1) 40(-1.75,4.1)
Top Overlay:
  circle w0.6: c-0.9,1.9 r0.3
  circle w0.25: c-3.1,3.463 r0.125
  lines w0.2: -1.9,-2.9 -1.9,2.9 1.9,2.9 1.9,-2.9 -1.9,-2.9